# EAGLE library part DRV8833PWP (library maciver_robot_lib)
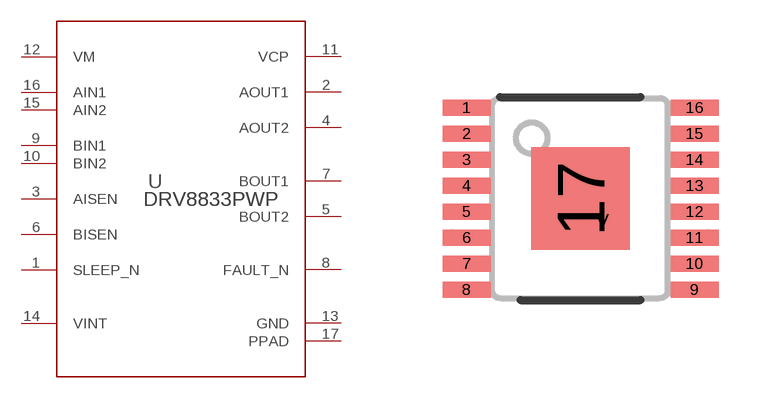
[diagram p4: symbol with the pads of DRV8833PWP; footprint DRV8833PWP]

Designator prefix U

## DRV8833PWPPWP0016C_L (COPYRIGHT: Copyright (C) 2022 Ultra Librarian. All rights reserved.; DIGI-KEY_PART_NUMBER_1: 296-29394-5-ND; MANUFACTURER_PART_NUMBER: DRV8833PWP; MFR_NAME: Texas Instruments; REFDES: RefDes; TYPE: TYPE)  [DRV8833PWP]
1  SLEEP_N  in
2  AOUT1  hiz
3  AISEN  in
4  AOUT2  hiz
5  BOUT2  hiz
6  BISEN  in
7  BOUT1  hiz
8  FAULT_N  oc
9  BIN1  in
10  BIN2  in
11  VCP
12  VM  pwr
13  GND  pwr
14  VINT  pas
15  AIN2  in
16  AIN1  in
17  PPAD  pwr

## Footprint DRV8833PWP (pad centres in mm)
smd 1.2 x 0.4: 1 -2.85,2.275; 2 -2.85,1.625; 3 -2.85,0.975; 4 -2.85,0.325; 5 -2.85,-0.325; 6 -2.85,-0.975; 7 -2.85,-1.625; 8 -2.85,-2.275; 9 2.85,-2.275; 10 2.85,-1.625; 11 2.85,-0.975; 12 2.85,-0.325; 13 2.85,0.325; 14 2.85,0.975; 15 2.85,1.625; 16 2.85,2.275
smd 2.46 x 2.56: 17 0,0
smd 0.5 x 0.5: V 0.55,-0.55